# Altium footprint library SG__PCB_SMD_Inductors.PcbLib: 41 footprints (part 3 of 3)
Each footprint in its own frame and in the unit in brackets; x right, y up, seen from the top. Pads: shape width x height; smd on the part's side, far side on the other; paste and mask are expansions set on the pad; w line width, h text height; cw(c..) or ccw(c..) is an arc to the next point about the centre after c.
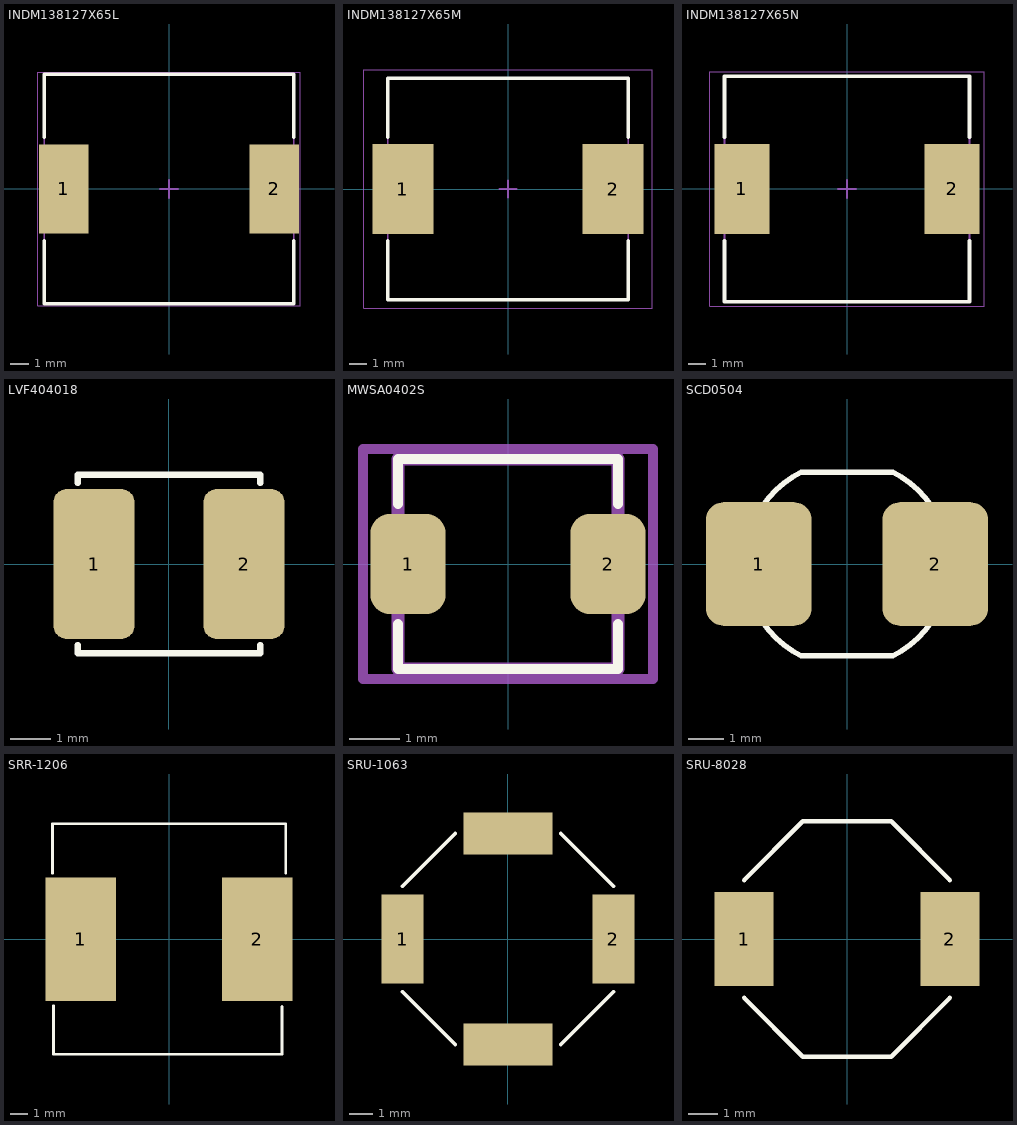
[diagram p2: the footprints below, top view; thin cyan lines are the x and y axes]

## INDM138127X65L [mm] "Molded Inductor, 2-Leads, Body 13,80x12,70mm, IPC High Density"
height 6.5
pads (2):
  rect 2.75x4.95 smd: 1(-5.825,0) 2(5.825,0)
Top Overlay:
  lines w0.2: -6.9,-2.875 -6.9,-6.35 6.9,-6.35 6.9,-2.875 ; -6.9,2.875 -6.9,6.35 6.9,6.35 6.9,2.875
Top Assembly:
  lines w0.1: -6.9,-6.35 -6.9,6.35 6.9,6.35 6.9,-6.35 -6.9,-6.35
Top Courtyard:
  lines w0.05: -7.275,-6.45 -7.275,6.45 7.275,6.45 7.275,-6.45 -7.275,-6.45
  lines w0.1: -0.5,0 0.5,0 ; 0,-0.5 0,0.5
3D body "INDM138127X65L.step": height 6.5, standoff 0, extent -7.12,-6.35 7.12,6.35

## INDM138127X65M [mm] "Molded Inductor, 2-Leads, Body 13,80x12,70mm, IPC Low Density"
height 6.5
pads (2):
  rect 3.5x5.15 smd: 1(-6.025,0) 2(6.025,0)
Top Overlay:
  lines w0.2: -6.9,-2.975 -6.9,-6.35 6.9,-6.35 6.9,-2.975 ; -6.9,2.975 -6.9,6.35 6.9,6.35 6.9,2.975
Top Assembly:
  lines w0.1: -6.9,-6.35 -6.9,6.35 6.9,6.35 6.9,-6.35 -6.9,-6.35
Top Courtyard:
  lines w0.05: -8.275,-6.85 -8.275,6.85 8.275,6.85 8.275,-6.85 -8.275,-6.85
  lines w0.1: -0.5,0 0.5,0 ; 0,-0.5 0,0.5
3D body "INDM138127X65M.step": height 6.5, standoff 0, extent -7.12,-6.35 7.12,6.35

## INDM138127X65N [mm] "Molded Inductor, 2-Leads, Body 13,80x12,70mm, IPC Medium Density"
height 6.5
pads (2):
  rect 3.1x5.05 smd: 1(-5.925,0) 2(5.925,0)
Top Overlay:
  lines w0.2: -6.9,-2.925 -6.9,-6.35 6.9,-6.35 6.9,-2.925 ; -6.9,2.925 -6.9,6.35 6.9,6.35 6.9,2.925
Top Assembly:
  lines w0.1: -6.9,-6.35 6.9,-6.35 6.9,6.35 -6.9,6.35 -6.9,-6.35
Top Courtyard:
  lines w0.05: -7.725,-6.6 7.725,-6.6 7.725,6.6 -7.725,6.6 -7.725,-6.6
  lines w0.1: -0.5,0 0.5,0 ; 0,-0.5 0,0.5
3D body "INDM138127X65N.step": height 6.5, standoff 0, extent -7.12,-6.35 7.12,6.35

## LVF404018 [mm]
height 1.8
pads (2):
  rrect33% 2x3.7 smd mask+0.05: 1(-1.85,0) 2(1.85,0)
Top Overlay:
  lines w0.152: -2.25,-2 -2.25,-2.2 2.25,-2.2 2.25,-2 ; -2.25,2 -2.25,2.2 2.25,2.2 2.25,2
3D body: height 1.8, standoff 0.1, extent -2.05,-2 2.05,2

## MWSA0402S [mm]
pads (2):
  rrect50% 1.5x2 smd: 1(-2,0) 2(2,0)
Top Overlay:
  lines w0.2: -2.201,1.2 -2.201,2.1 2.2,2.1 2.2,1.2 ; -2.2,-1.2 -2.2,-2.1 2.2,-2.1 2.2,-1.2
Top Assembly:
  lines w0.254: -2.2,-2.1 -2.2,2.1 2.2,2.1 2.2,-2.1 -2.2,-2.1
Top Courtyard:
  lines w0.2: -2.9,-2.3 2.9,-2.3 2.9,2.3 -2.9,2.3 -2.9,-2.3
3D body "User Library-MWSA0402S.STEP": height 1.8, standoff 0, extent -2.4,-2.1 2.4,2.1

## SCD0504 [mm]
height 4.5
pads (2):
  rrect33% 3x3.5 smd mask+0.05: 1(-2.5,0) 2(2.5,0)
Top Overlay:
  lines w0.152: -1.3,-2.6 cw(c0,0) -1.3,2.6 1.3,2.6 cw(c0,0) 1.3,-2.6 -1.3,-2.6
3D body: height 1.27, standoff 0, extent -1.27,2.591 -1.27,2.591
3D body: height 4.5, standoff 0.1, extent -2.896,-2.6 2.921,2.6

## SRR-1206 [mm]
pads (2):
  rect 4x7 smd: 1(-5,0) 2(5,0)
Top Overlay:
  lines w0.152: -6.6,3.759 -6.6,6.553 6.608,6.553 6.608,3.759 ; -6.549,-3.759 -6.549,-6.502 6.4,-6.5 6.4,-3.8
3D body: height 7, standoff 0.5, extent -6.5,-6.5 6.5,6.5

## SRU-1063 [mm]
pads (4):
  rect 1.8x3.8 smd mask+0.102: 1(-4.5,0) 2(4.5,0)
  rect 3.8x1.8 smd mask+0.102: ""(0,-4.5) ""(0,4.5)
Top Overlay:
  lines w0.152: -4.5,-2.25 -2.25,-4.5 ; -4.5,2.25 -2.25,4.5 ; 2.25,-4.5 4.5,-2.25 ; 2.25,4.5 4.5,2.25
3D body "sru1063.stp": height 6.5, standoff 0, extent -5,-5 5,5

## SRU-8028 [mm]
pads (2):
  rect 2x3.2 smd: 1(-3.5,0) 2(3.5,0)
Top Overlay:
  lines w0.152: -3.5,-2 -1.5,-4 1.5,-4 3.5,-2 ; -3.5,2 -1.5,4 1.5,4 3.5,2
3D body "sru8028.stp": height 2.8, standoff 0, extent -4,-4 4,4